# EAGLE library part G5110-DCDC (library LITTLEBITS140826)
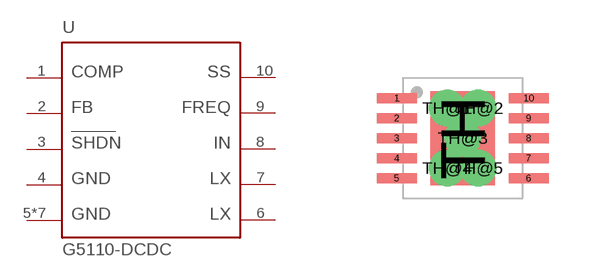
[diagram p67: symbol with the pads of TDFN3X3-10; footprint TDFN3X3-10]

Designator prefix -

## G5110-DCDC (MFG: Global Mixed-mode Technology; MPN: G5110)  [TDFN3X3-10]
1  P1
2  P2
3  P3
4  P4
5  P5
6  P6
7  P7
8  P8
9  P9
10  P10
TH  P5
TH@1  P5
TH@2  P5
TH@3  P5
TH@4  P5
TH@5  P5

## Footprint TDFN3X3-10 (pad centres in mm)
Generic TDFN3X3-10 PCB footprint
smd 1 x 0.25: 1 -1.65,1; 2 -1.65,0.5; 3 -1.65,0; 4 -1.65,-0.5; 5 -1.65,-1; 6 1.65,-1; 7 1.65,-0.5; 8 1.65,0; 9 1.65,0.5; 10 1.65,1
smd 1.6 x 2.35: TH 0,0
drill 0.406 pad 0.406: TH@1 -0.39,0.75; TH@2 0.39,0.75; TH@3 0,0; TH@4 -0.39,-0.75; TH@5 0.39,-0.75